# Altium footprint library RL78(G13).PcbLib: 1 footprints
Each footprint in its own frame and in the unit in brackets; x right, y up, seen from the top. Pads: shape width x height; smd on the part's side, far side on the other; paste and mask are expansions set on the pad; w line width, h text height; cw(c..) or ccw(c..) is an arc to the next point about the centre after c.
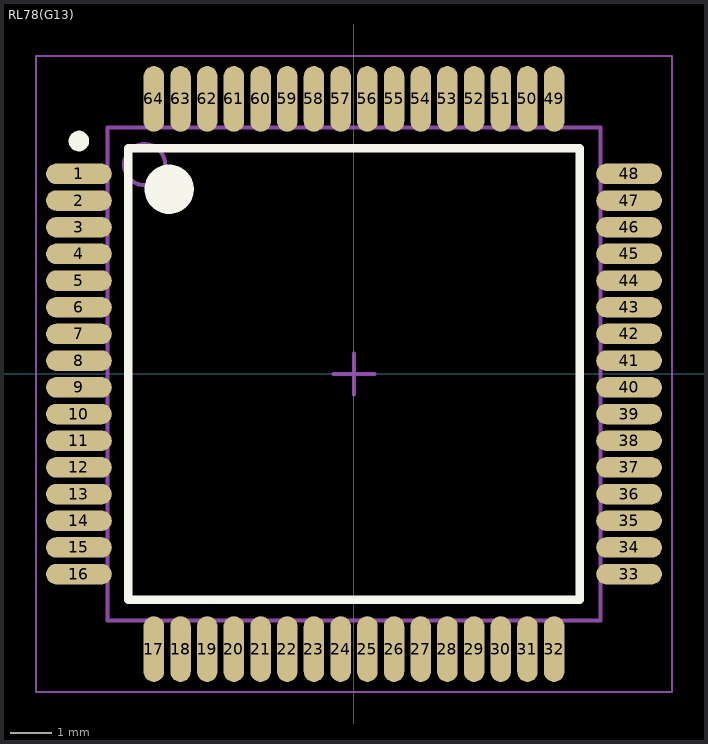
[diagram p0: the footprint, top view; thin cyan lines are the x and y axes]

## RL78(G13) [mm]
height 1.4
pads (64):
  oval 1.6x0.5 smd: 1(-6.7,4.875) 2(-6.7,4.225) 3(-6.7,3.575) 4(-6.7,2.925) 5(-6.7,2.275) 6(-6.7,1.625) 7(-6.7,0.975) 8(-6.7,0.325) 9(-6.7,-0.325) 10(-6.7,-0.975) 11(-6.7,-1.625) 12(-6.7,-2.275) 13(-6.7,-2.925) 14(-6.7,-3.575) 15(-6.7,-4.225) 16(-6.7,-4.875) 33(6.7,-4.875) 34(6.7,-4.225) 35(6.7,-3.575) 36(6.7,-2.925) 37(6.7,-2.275) 38(6.7,-1.625) 39(6.7,-0.975) 40(6.7,-0.325) 41(6.7,0.325) 42(6.7,0.975) 43(6.7,1.625) 44(6.7,2.275) 45(6.7,2.925) 46(6.7,3.575) 47(6.7,4.225) 48(6.7,4.875)
  oval 0.5x1.6 smd: 17(-4.875,-6.7) 18(-4.225,-6.7) 19(-3.575,-6.7) 20(-2.925,-6.7) 21(-2.275,-6.7) 22(-1.625,-6.7) 23(-0.975,-6.7) 24(-0.325,-6.7) 25(0.325,-6.7) 26(0.975,-6.7) 27(1.625,-6.7) 28(2.275,-6.7) 29(2.925,-6.7) 30(3.575,-6.7) 31(4.225,-6.7) 32(4.875,-6.7) 49(4.875,6.7) 50(4.225,6.7) 51(3.575,6.7) 52(2.925,6.7) 53(2.275,6.7) 54(1.625,6.7) 55(0.975,6.7) 56(0.325,6.7) 57(-0.325,6.7) 58(-0.975,6.7) 59(-1.625,6.7) 60(-2.275,6.7) 61(-2.925,6.7) 62(-3.575,6.7) 63(-4.225,6.7) 64(-4.875,6.7)
Top Overlay:
  circle w0.25: c-6.7,5.675 r0.125
  circle w0.6: c-4.5,4.5 r0.3
  lines w0.2: -5.5,-5.5 -5.5,5.5 5.5,5.5 5.5,-5.5 -5.5,-5.5
Mechanical 13:
  circle w0.1: c-5.1,5.1 r0.5
  lines w0.1: -6,-6 -6,6 6,6 6,-6 -6,-6
Mechanical 15:
  lines w0.05: -7.75,-7.75 -7.75,7.75 7.75,7.75 7.75,-7.75 -7.75,-7.75
  lines w0.1: -0.5,0 0.5,0 ; 0,-0.5 0,0.5
3D body: height 1.4, standoff 0.1, extent -6,-6 6,6